# Altium schematic symbol library IC Miscellaneous.SchLib: 30 symbols
Pins are listed as number, name and electrical type; pins without a type are passive.

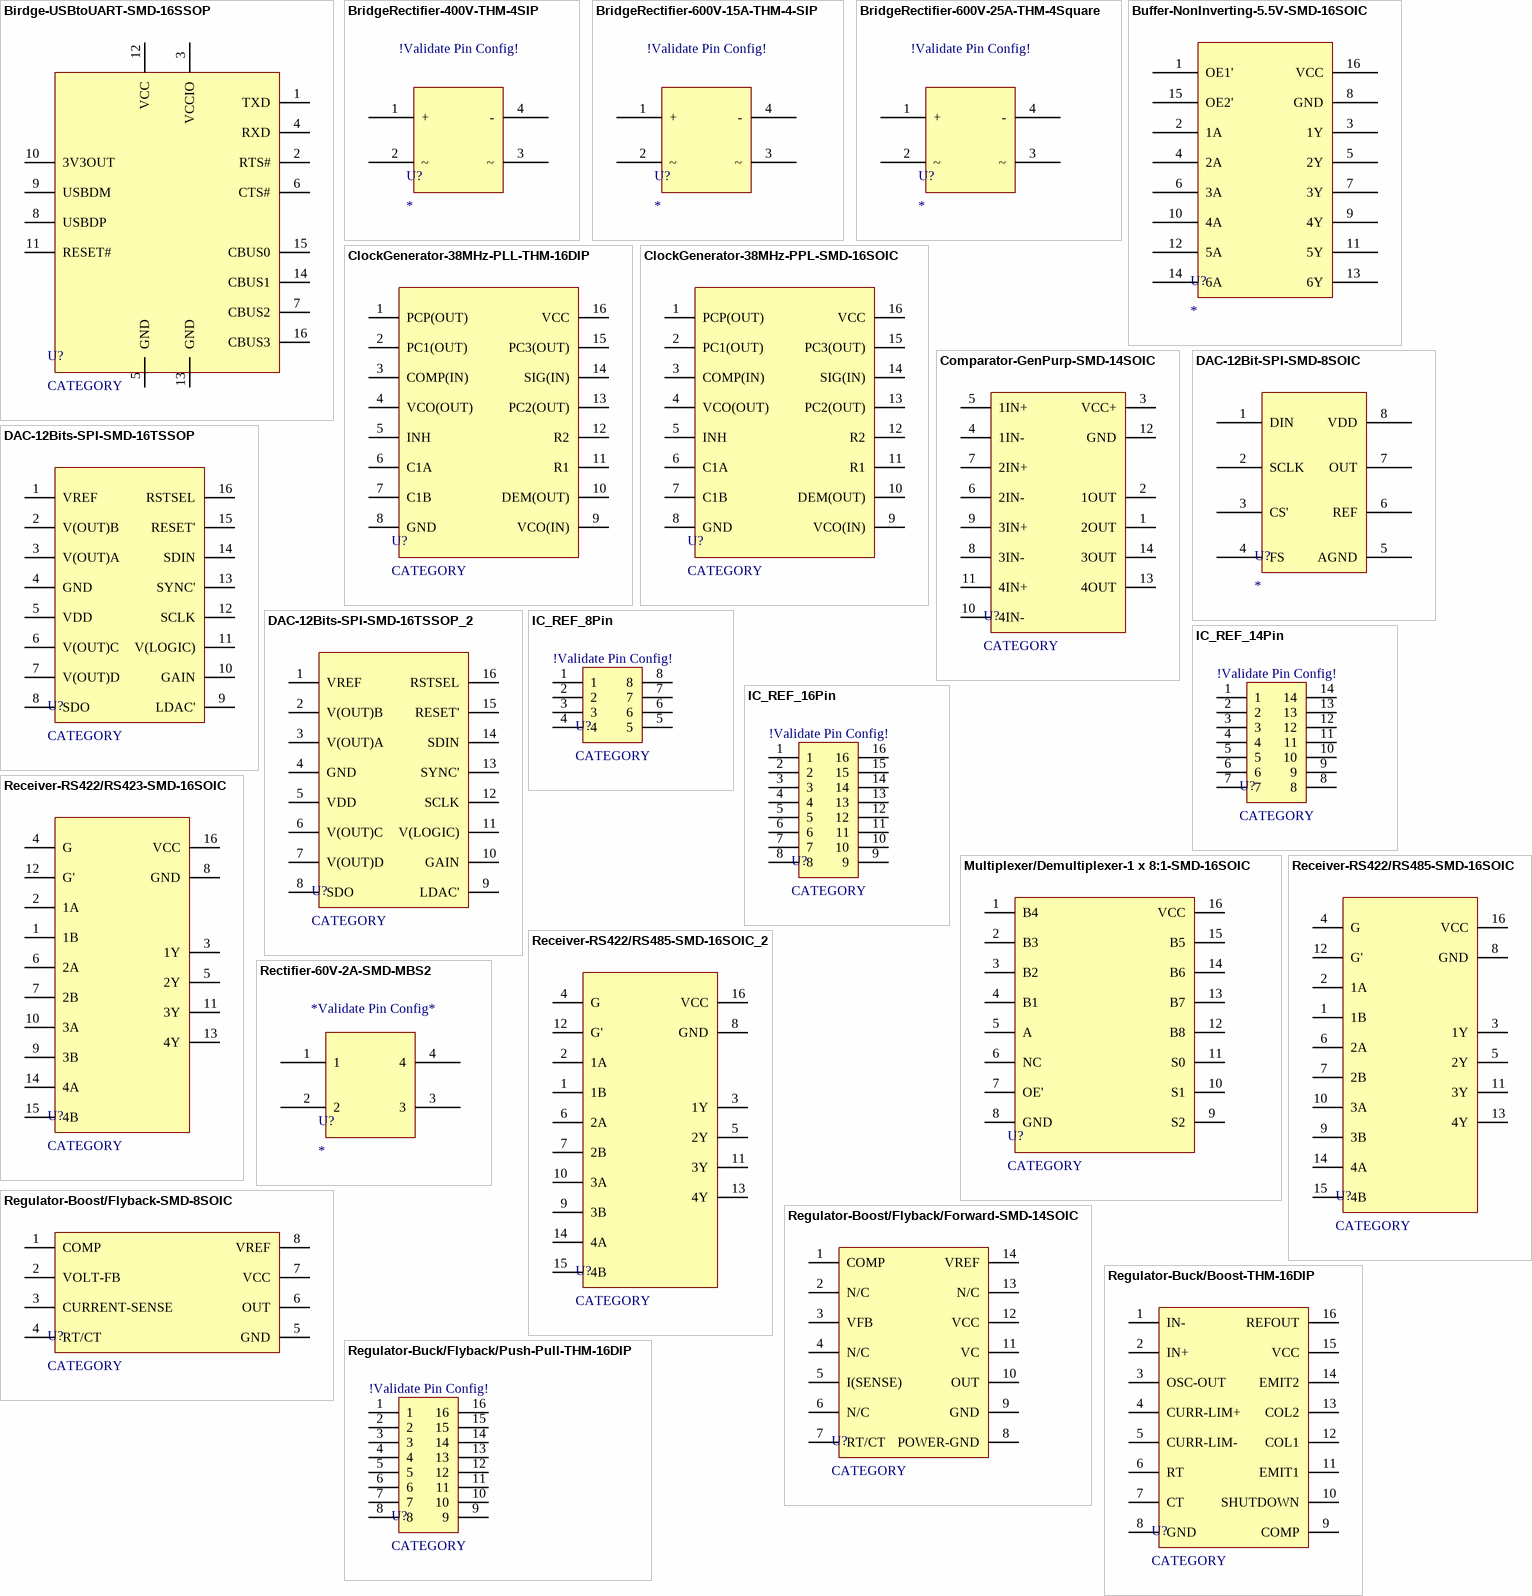
[diagram p0: symbols Birdge-USBtoUART-SMD-16SSOP to Regulator-Buck/Flyback/Push-Pull-THM-16DIP]

## Birdge-USBtoUART-SMD-16SSOP
designator U?, comment CATEGORY
IC USB SERIAL BASIC UART 16SSOP; ManufacturerReference: FT230XS-R; Manufacturer: FTDI, Future Technology Devices International Ltd; InventoryNumber: IC059; Distributor: Digikey; DistributorReference: 768-1135-1-ND; PackageReference: 16SSOP-3.9mmWidth
pins: 1 TXD, 2 RTS#, 3 VCCIO, 4 RXD, 5 GND, 6 CTS#, 7 CBUS2, 8 USBDP, 9 USBDM, 10 3V3OUT, 11 RESET#, 12 VCC, 13 GND, 14 CBUS1, 15 CBUS0, 16 CBUS3

## BridgeRectifier-400V-THM-4SIP
designator U?
IC RECT BRIDGE GPP 35A 400V GBJ; Manufacturer: Micro Commercial Co; ManufacturerReference: GBJ3504-BP; InventoryNumber: IC219; Distributor: Digikey; DistributorReference: GBJ3504-BPMS-ND; Package: 4SIP; VoltageRating: 400V
pins: 1 +, 2 ~, 3 ~, 4 -
text: !Validate Pin Config!

## BridgeRectifier-600V-15A-THM-4-SIP
designator U?
RECT BRIDGE GPP 15A 600V GBJ; Manufacturer: Micro Commercial Co; ManufacturerReference: GBJ1506-BP; InventoryNumber: IC215; Distributor: Digikey; DistributorReference: GBJ1506-BPMS-ND; Package: 4-SIP/GBJ
pins: 1 +, 2 ~, 3 ~, 4 -
text: !Validate Pin Config!

## BridgeRectifier-600V-25A-THM-4Square
designator U?
RECTIFIER BRIDGE 25A 600V GBPC; Manufacturer: Vishay Semiconductor Diodes Division; ManufacturerReference: GBPC2506-E4/51; InventoryNumber: IC217; Distributor: Digikey; DistributorReference: GBPC2506-E4/51GI-ND; Package: 4Square/GBPC
pins: 1 +, 2 ~, 3 ~, 4 -
text: !Validate Pin Config!

## Buffer-NonInverting-5.5V-SMD-16SOIC
designator U?
IC BUF NON-INVERT 5.5V 16SOIC; Manufacturer: Texas Instruments; ManufacturerReference: CD74HCT365M96; InventoryNumber: IC222; Distributor: Digikey; DistributorReference: 296-15733-1-ND; Package: 16SOIC-3.9mmWidth; SupplyVoltage: 5.5V
footprint 16SOIC-3.9mmWidth Texas Instruments (SOIC, 16-Leads, Body 9.90x3.90mm, Pitch 1.27mm, IPC High Density)
pins: 1 OE1', 2 1A, 3 1Y, 4 2A, 5 2Y, 6 3A, 7 3Y, 8 GND, 9 4Y, 10 4A, 11 5Y, 12 5A, 13 6Y, 14 6A, 15 OE2', 16 VCC

## ClockGenerator-38MHz-PLL-THM-16DIP
designator U?, comment CATEGORY
IC PLL W/VCO 16-DIP; ManufacturerReference: CD74HC4046AE; Manufacturer: Texas Instruments; InventoryNumber: IC207; MaxFrequency: 38MHz; Distributor: Digikey; DistributorReference: 296-9208-5-ND; PackageReference: 16DIP-7.62mmWidth; Type: PLL
pins: 1 PCP(OUT), 2 PC1(OUT), 3 COMP(IN), 4 VCO(OUT), 5 INH, 6 C1A, 7 C1B, 8 GND, 9 VCO(IN), 10 DEM(OUT), 11 R1, 12 R2, 13 PC2(OUT), 14 SIG(IN), 15 PC3(OUT), 16 VCC

## ClockGenerator-38MHz-PPL-SMD-16SOIC
designator U?, comment CATEGORY
IC PLL W/VCO 16-SOIC; ManufacturerReference: CD74HC4046AMT; Manufacturer: Texas Instruments; InventoryNumber: IC204; MaxFrequency: 38MHz; Distributor: Digikey; DistributorReference: 296-32068-1-ND; PackageReference: 16SOIC-3.9mmWidth; Type: PLL
footprint 16SOIC-3.9mmWidth Texas Instruments (SOIC, 16-Leads, Body 9.90x3.90mm, Pitch 1.27mm, IPC High Density)
pins: 1 PCP(OUT), 2 PC1(OUT), 3 COMP(IN), 4 VCO(OUT), 5 INH, 6 C1A, 7 C1B, 8 GND, 9 VCO(IN), 10 DEM(OUT), 11 R1, 12 R2, 13 PC2(OUT), 14 SIG(IN), 15 PC3(OUT), 16 VCC

## Comparator-GenPurp-SMD-14SOIC
designator U?, comment CATEGORY
IC QUAD LV COMPARATOR 14-SOIC; ManufacturerReference: LMV339IDR; Manufacturer: Texas Instruments; InventoryNumber: IC208; Distributor: Digikey; DistributorReference: 296-6611-1-ND; PackageReference: 14SOIC-3.9mmWidth
footprint 14SOIC-3.9mmWidth ON Semiconductor (SOIC, 14-Leads, Body 8.56x3.98mm, Pitch 1.27mm, IPC High Density)
pins: 1 2OUT, 2 1OUT, 3 VCC+, 4 1IN-, 5 1IN+, 6 2IN-, 7 2IN+, 8 3IN-, 9 3IN+, 10 4IN-, 11 4IN+, 12 GND, 13 4OUT, 14 3OUT

## DAC-12Bit-SPI-SMD-8SOIC
designator U?
IC 12-BIT SERIAL D/A 8-SOIC; Manufacturer: Texas Instruments; ManufacturerReference: TLV5636CD; InventoryNumber: IC205; NumbeOfBits: 12; DataInterface: SPI; Distributor: Digikey; DistributorReference: 296-2315-5-ND; Package: 8SOIC-3.9mWidth
footprint 8SOIC-3.9mmWidth (SOIC, 8-Leads, Body 4.90x3.90mm, Pitch 1.27mm, IPC High Density)
pins: 1 DIN, 2 SCLK, 3 CS', 4 FS, 5 AGND, 6 REF, 7 OUT, 8 VDD

## DAC-12Bits-SPI-SMD-16TSSOP
designator U?, comment CATEGORY
IC DAC 12BIT SPI QUAD 16TSSOP; ManufacturerReference: AD5684RBRUZ; Manufacturer: Analog Devices Inc.; InventoryNumber: IC206; NumberOfBits: 12; DataInterface: SPI/DSP; Distributor: Digikey; DistributorReference: AD5684RBRUZ-ND; PackageReference: 16TSSOP-4.4mmWidth
footprint 16TSSOP-4.4mmWidth Texas Instruments (TSOP, 16-Leads, Body 5.00x4.40mm, Pitch 0.65mm, IPC High Density)
pins: 1 VREF, 2 V(OUT)B, 3 V(OUT)A, 4 GND, 5 VDD, 6 V(OUT)C, 7 V(OUT)D, 8 SDO, 9 LDAC', 10 GAIN, 11 V(LOGIC), 12 SCLK, 13 SYNC', 14 SDIN, 15 RESET', 16 RSTSEL

## DAC-12Bits-SPI-SMD-16TSSOP_2
designator U?, comment CATEGORY
IC DAC 12BIT SPI QUAD 16TSSOP; ManufacturerReference: AD5684RBRUZ; Manufacturer: Analog Devices Inc.; InventoryNumber: IC210; NumberOfBits: 12; DataInterface: SPI/DSP; Distributor: Digikey; DistributorReference: AD5686RARUZ-ND; PackageReference: 16TSSOP-4.4mmWidth
footprint 16TSSOP-4.4mmWidth Texas Instruments (TSOP, 16-Leads, Body 5.00x4.40mm, Pitch 0.65mm, IPC High Density)
pins: 1 VREF, 2 V(OUT)B, 3 V(OUT)A, 4 GND, 5 VDD, 6 V(OUT)C, 7 V(OUT)D, 8 SDO, 9 LDAC', 10 GAIN, 11 V(LOGIC), 12 SCLK, 13 SYNC', 14 SDIN, 15 RESET', 16 RSTSEL

## IC_REF_8Pin
designator U?, comment CATEGORY
Distributor: Digikey; DistributorReference: *; InventoryNumber: *; PackageReference: *; ManufacturerReference: *; Manufacturer: *
pins: 1, 2, 3, 4, 5, 6, 7, 8
text: !Validate Pin Config!

## IC_REF_14Pin
designator U?, comment CATEGORY
Distributor: Digikey; DistributorReference: *; InventoryNumber: *; PackageReference: *; ManufacturerReference: *; Manufacturer: *
pins: 1, 2, 3, 4, 5, 6, 7, 8, 9, 10, 11, 12, 13, 14
text: !Validate Pin Config!

## IC_REF_16Pin
designator U?, comment CATEGORY
Distributor: Digikey; DistributorReference: *; InventoryNumber: *; PackageReference: *; ManufacturerReference: *; Manufacturer: *
pins: 1, 2, 3, 4, 5, 6, 7, 8, 9, 10, 11, 12, 13, 14, 15, 16
text: !Validate Pin Config!

## Multiplexer/Demultiplexer-1 x 8:1-SMD-16SOIC
designator U?, comment CATEGORY
IC LV FET MUX/DEMUX 16-SOIC; ManufacturerReference: SN74CBTLV3251DR; Manufacturer: Texas Instruments; InventoryNumber: IC213; Distributor: Digikey; DistributorReference: 296-9128-1-ND; PackageReference: 16SOIC-3.9mmWidth
footprint 16SOIC-3.9mmWidth Texas Instruments (SOIC, 16-Leads, Body 9.90x3.90mm, Pitch 1.27mm, IPC High Density)
pins: 1 B4, 2 B3, 3 B2, 4 B1, 5 A, 6 NC, 7 OE', 8 GND, 9 S2, 10 S1, 11 S0, 12 B8, 13 B7, 14 B6, 15 B5, 16 VCC

## Receiver-RS422/RS423-SMD-16SOIC
designator U?, comment CATEGORY
IC QUAD DIFF LINE RCVR 16-SOIC; ManufacturerReference: AM26C32ID; Manufacturer: Texas Instruments; InventoryNumber: IC201; Distributor: Digikey; DistributorReference: 296-6788-5-ND; PackageReference: 16SOIC-3.9mmWidth
footprint 16SOIC-3.9mmWidth Texas Instruments (SOIC, 16-Leads, Body 9.90x3.90mm, Pitch 1.27mm, IPC High Density)
pins: 1 1B, 2 1A, 3 1Y, 4 G, 5 2Y, 6 2A, 7 2B, 8 GND, 9 3B, 10 3A, 11 3Y, 12 G', 13 4Y, 14 4A, 15 4B, 16 VCC

## Receiver-RS422/RS485-SMD-16SOIC
designator U?, comment CATEGORY
IC QUAD DIFF LINE RCVR 16-SOIC; ManufacturerReference: AM26LV32EMDREP; Manufacturer: Texas Instruments; InventoryNumber: IC202; Distributor: Digikey; DistributorReference: 296-23926-1-ND; PackageReference: 16SOIC-3.9mmWidth
footprint 16SOIC-3.9mmWidth Texas Instruments (SOIC, 16-Leads, Body 9.90x3.90mm, Pitch 1.27mm, IPC High Density)
pins: 1 1B, 2 1A, 3 1Y, 4 G, 5 2Y, 6 2A, 7 2B, 8 GND, 9 3B, 10 3A, 11 3Y, 12 G', 13 4Y, 14 4A, 15 4B, 16 VCC

## Receiver-RS422/RS485-SMD-16SOIC_2
designator U?, comment CATEGORY
IC RCVR DIFF QUAD LV HS 16SOIC; ManufacturerReference: AM26LV32EIDR; Manufacturer: Texas Instruments; InventoryNumber: IC202; Distributor: Digikey; DistributorReference: 296-24694-2-ND; PackageReference: 16SOIC-3.9mmWidth
footprint 16SOIC-3.9mmWidth Texas Instruments (SOIC, 16-Leads, Body 9.90x3.90mm, Pitch 1.27mm, IPC High Density)
pins: 1 1B, 2 1A, 3 1Y, 4 G, 5 2Y, 6 2A, 7 2B, 8 GND, 9 3B, 10 3A, 11 3Y, 12 G', 13 4Y, 14 4A, 15 4B, 16 VCC

## Rectifier-60V-2A-SMD-MBS2
designator U?
BRIDGE RECTIFIER 60V 2A MBS2; Manufacturer: Comchip Technology; ManufacturerReference: CDBHM260L-HF; InventoryNumber: IC216; Distributor: Digikey; DistributorReference: 641-1434-1-ND; Package: MBS2/TO269AA; VoltageRating: 60V; CurrentRating: 2A
pins: 1, 2, 3, 4
text: *Validate Pin Config*

## Regulator-Boost/Flyback-SMD-8SOIC
designator U?, comment CATEGORY
IC REG CTRLR FLYBACK 8SOIC; ManufacturerReference: UC3843BD1R2G; Manufacturer: ON Semiconductor; InventoryNumber: IC203; Distributor: Digikey; DistributorReference: UC3843BD1R2GOSCT-ND; PackageReference: 8SOIC-3.9mmWidth
footprint 8SOIC-3.9mmWidth (SOIC, 8-Leads, Body 4.90x3.90mm, Pitch 1.27mm, IPC High Density)
pins: 1 COMP, 2 VOLT-FB, 3 CURRENT-SENSE, 4 RT/CT, 5 GND, 6 OUT, 7 VCC, 8 VREF

## Regulator-Boost/Flyback/Forward-SMD-14SOIC
designator U?, comment CATEGORY
IC REG CTRLR BST FLYBK CM 14SOIC; ManufacturerReference: TL3842BD; Manufacturer: Texas Instruments; InventoryNumber: IC004; Distributor: Digikey; DistributorReference: 296-23296-5-ND; PackageReference: 14SOIC-3.9mmWidth
footprint 14SOIC-3.9mmWidth ON Semiconductor (SOIC, 14-Leads, Body 8.56x3.98mm, Pitch 1.27mm, IPC High Density)
pins: 1 COMP, 2 N/C, 3 VFB, 4 N/C, 5 I(SENSE), 6 N/C, 7 RT/CT, 8 POWER-GND, 9 GND, 10 OUT, 11 VC, 12 VCC, 13 N/C, 14 VREF

## Regulator-Buck/Boost-THM-16DIP
designator U?, comment CATEGORY
IC REG CTRLR MULT TOPOLOGY 16DIP; ManufacturerReference: SG3524N; Manufacturer: Texas Instruments; InventoryNumber: IC002; Distributor: Digikey; DistributorReference: 296-9687-5-ND; PackageReference: 16DIP-7.62mmWidth
footprint DIP16-2.54Pitch-STMicroelectronics (Pitch2.54mm-7.62mmWidth)
pins: 1 IN-, 2 IN+, 3 OSC-OUT, 4 CURR-LIM+, 5 CURR-LIM-, 6 RT, 7 CT, 8 GND, 9 COMP, 10 SHUTDOWN, 11 EMIT1, 12 COL1, 13 COL2, 14 EMIT2, 15 VCC, 16 REFOUT

## Regulator-Buck/Flyback/Push-Pull-THM-16DIP
designator U?, comment CATEGORY
IC REG CTRLR MULT TOPOLOGY 16DIP; ManufacturerReference: SG3524N; Manufacturer: Microsemi Corporation; InventoryNumber: IC001; Distributor: Digikey; DistributorReference: SG3524N-ND; PackageReference: 16DIP-7.62mmWidth
footprint DIP16-2.54Pitch-STMicroelectronics (Pitch2.54mm-7.62mmWidth)
pins: 1, 2, 3, 4, 5, 6, 7, 8, 9, 10, 11, 12, 13, 14, 15, 16
text: !Validate Pin Config!

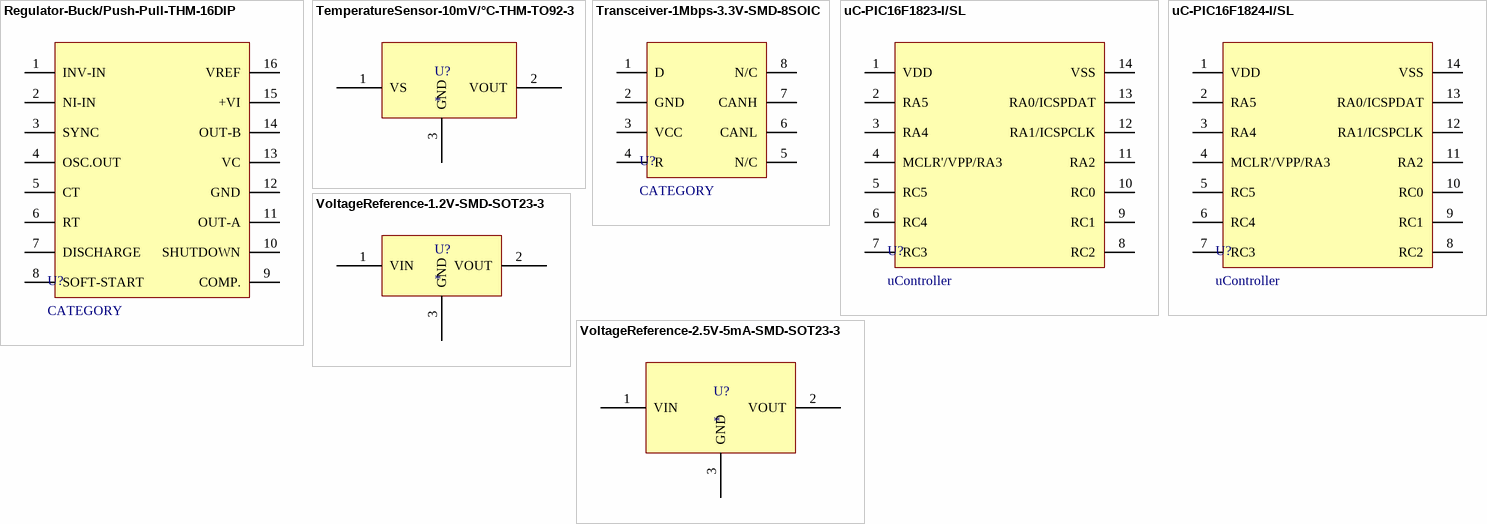
[diagram p1: symbols Regulator-Buck/Push-Pull-THM-16DIP to VoltageReference-2.5V-5mA-SMD-SOT23-3]

## Regulator-Buck/Push-Pull-THM-16DIP
designator U?, comment CATEGORY
IC REG CTRLR BCK/PUSH-PULL 16DIP; ManufacturerReference: SG3525AN; Manufacturer: STMicroelectronics; InventoryNumber: IC003; Distributor: Digikey; DistributorReference: 497-2041-5-ND; PackageReference: 16DIP-7.62mmWidth
footprint DIP16-2.54Pitch-STMicroelectronics (Pitch2.54mm-7.62mmWidth)
pins: 1 INV-IN, 2 NI-IN, 3 SYNC, 4 OSC.OUT, 5 CT, 6 RT, 7 DISCHARGE, 8 SOFT-START, 9 COMP., 10 SHUTDOWN, 11 OUT-A, 12 GND, 13 VC, 14 OUT-B, 15 +VI, 16 VREF

## TemperatureSensor-10mV/°C-THM-TO92-3
designator U?
SENSOR TEMP ANLG VOLT TO-92-3; Manufacturer: Texas Instruments; ManufacturerReference: LM35DZ/NOPB; InventoryNumber: IC140; SupplyVoltage: 4V-30V; Resolution: 10mV/°C; SensingTemperature: 0°C ~ 100°C; Distributor: Digikey; DistributorReference: LM35DZ/NOPB-ND; Package: TO92-3
footprint TO92 TAPED BULK STRAIGHT LEAD
pins: 1 VS, 2 VOUT, 3 GND

## Transceiver-1Mbps-3.3V-SMD-8SOIC
designator U?, comment CATEGORY
IC CAN TRANSCEIVER 3.3V 8-SOIC; ManufacturerReference: SN65HVD232D; Manufacturer: Texas Instruments; InventoryNumber: IC211; Distributor: Digikey; DistributorReference: 296-12282-5-ND; PackageReference: 8SOIC-3.9mmWidth
footprint 8SOIC-3.9mmWidth (SOIC, 8-Leads, Body 4.90x3.90mm, Pitch 1.27mm, IPC High Density)
pins: 1 D, 2 GND, 3 VCC, 4 R, 5 N/C, 6 CANL, 7 CANH, 8 N/C

## uC-PIC16F1823-I/SL
designator U?, comment uController
IC MCU 8BIT 3.5KB FLASH 14SOIC; ManufacturerReference: PIC16F1823-I/SL; Manufacturer: Microchip Technology; InventoryNumber: IC220; Distributor: Digikey; DistributorReference: PIC16F1823-I/SL-ND; PackageReference: 14SOIC-3.9mmWidth
footprint 14SOIC-3.9mmWidth ON Semiconductor (SOIC, 14-Leads, Body 8.56x3.98mm, Pitch 1.27mm, IPC High Density)
pins: 1 VDD, 2 RA5, 3 RA4, 4 MCLR'/VPP/RA3, 5 RC5, 6 RC4, 7 RC3, 8 RC2, 9 RC1, 10 RC0, 11 RA2, 12 RA1/ICSPCLK, 13 RA0/ICSPDAT, 14 VSS

## uC-PIC16F1824-I/SL
designator U?, comment uController
IC MCU 8BIT 7KB FLASH 14SOIC; ManufacturerReference: PIC16F1824-I/SL; Manufacturer: Microchip Technology; InventoryNumber: IC214; Distributor: Digikey; DistributorReference: PIC16F1824-I/SL-ND; PackageReference: 14SOIC-3.9mmWidth
footprint 14SOIC-3.9mmWidth ON Semiconductor (SOIC, 14-Leads, Body 8.56x3.98mm, Pitch 1.27mm, IPC High Density)
pins: 1 VDD, 2 RA5, 3 RA4, 4 MCLR'/VPP/RA3, 5 RC5, 6 RC4, 7 RC3, 8 RC2, 9 RC1, 10 RC0, 11 RA2, 12 RA1/ICSPCLK, 13 RA0/ICSPDAT, 14 VSS

## VoltageReference-1.2V-SMD-SOT23-3
designator U?
IC VREF SERIES 1.2V SOT23-3; Manufacturer: Maxim Integrated; ManufacturerReference: MAX6520EUR+T; InventoryNumber: IC060; OutputCurrent: 400uA; Distributor: Digikey; DistributorReference: MAX6520EUR+TCT-ND; Package: SOT23-3/TO236-3; OutputVoltage: 1.2V
footprint SOT23A-3 Microchip Technology (SOT23, 3-Leads, Body 2.90x2.75mm, Pitch 0.95mm, IPC High Density)
pins: 1 VIN, 2 VOUT, 3 GND

## VoltageReference-2.5V-5mA-SMD-SOT23-3
designator U?
IC VREF SERIES 2.5V SOT23-3; Manufacturer: Maxim Integrated; ManufacturerReference: MAX6102EUR+T; InventoryNumber: IC221; CurrentOutput: 5mA; Distributor: Digikey; DistributorReference: MAX6102EUR+TCT-ND; Package: SOT23-3/TO236-3; VoltageOutput: 2.5V
footprint SOT23A-3 Microchip Technology (SOT23, 3-Leads, Body 2.90x2.75mm, Pitch 0.95mm, IPC High Density)
pins: 1 VIN, 2 VOUT, 3 GND